# EAGLE library part ADL5513ACPZ-R7 (library ADL5513ACPZ-R7)
ANALOG DEVICES - ADL5513ACPZ-R7 - DETECTOR, 1MHZ - 4GHZ, 80DB, LFCSP-16 Source: Datasheet <https://www.analog.com/media/en/technical-documentation/data-sheets/ADL5513.pdf>
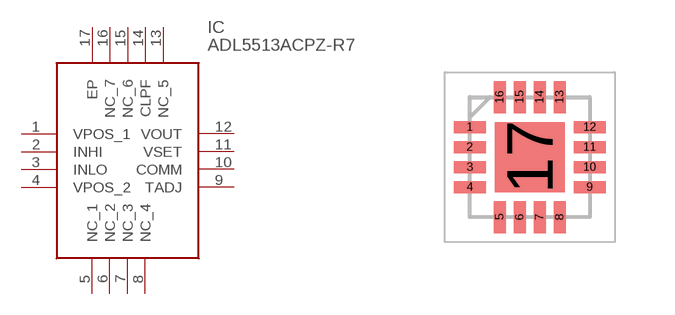
[diagram p0: symbol with the pads of QFN50P300X300X80-17N; footprint QFN50P300X300X80-17N]

Designator prefix IC

## ADL5513ACPZ-R7 (Arrow_Part_Number: ADL5513ACPZ-R7; Arrow_Price-Stock: https://www.arrow.com/en/products/adl5513acpz-r7/analog-devices?utm_currency=USD&region=nac; Description: ANALOG DEVICES - ADL5513ACPZ-R7 - DETECTOR, 1MHZ - 4GHZ, 80DB, LFCSP-16; Height: 0.8mm; Manufacturer_Name: Analog Devices; Manufacturer_Part_Number: ADL5513ACPZ-R7; Mouser_Part_Number: 584-ADL5513ACPZ-R7; Mouser_Price-Stock: https://www.mouser.co.uk/ProductDetail/Analog-Devices/ADL5513ACPZ-R7?qs=BpaRKvA4VqGe6%2FPlUcoEpw%3D%3D)  [QFN50P300X300X80-17N]
1  VPOS_1
2  INHI
3  INLO
4  VPOS_2
5  NC_1
6  NC_2
7  NC_3
8  NC_4
9  TADJ
10  COMM
11  VSET
12  VOUT
13  NC_5
14  CLPF
15  NC_6
16  NC_7
17  EP

## Footprint QFN50P300X300X80-17N (pad centres in mm)
16-Lead Lead Frame Chip Scale Package [LFCSP]
smd 0.8 x 0.3: 1 -1.5,0.75; 2 -1.5,0.25; 3 -1.5,-0.25; 4 -1.5,-0.75; 9 1.5,-0.75; 10 1.5,-0.25; 11 1.5,0.25; 12 1.5,0.75
smd 0.3 x 0.8: 5 -0.75,-1.5; 6 -0.25,-1.5; 7 0.25,-1.5; 8 0.75,-1.5; 13 0.75,1.5; 14 0.25,1.5; 15 -0.25,1.5; 16 -0.75,1.5
smd 1.75 x 1.75: 17 0,0